# EAGLE library part HEADER-02X004-2_54MM (library FlashPCB_Connectors)
Header 2x4 - Header Vertical 2x4POS 2.54MM Technical Specifications: Pitch: 0.1" (2.54mm) Rows: 2
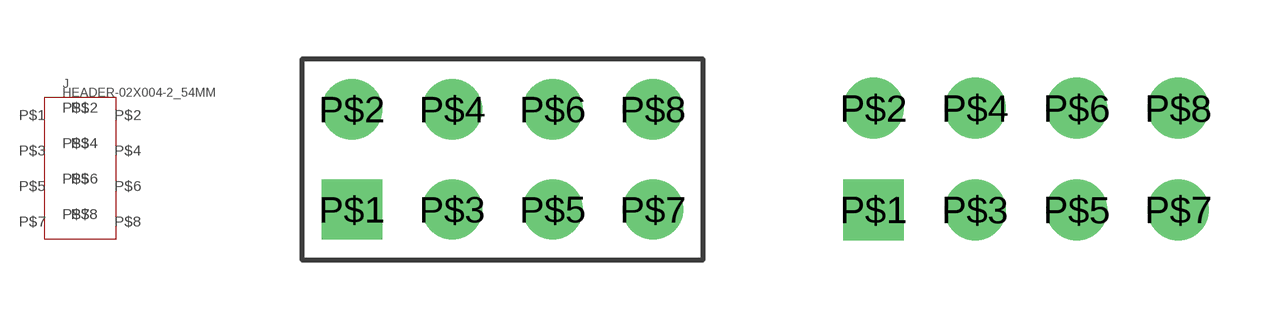
[diagram p7: symbol with the pads of HEADER-THT-02X004-2_54MM; footprints HEADER-THT-02X004-2_54MM, HEADER-THT-NOSILK-02X004-2_54MM]

Designator prefix J

## HEADER-02X004-2_54MMSTANDARD  [HEADER-THT-02X004-2_54MM]
P$1  P$1
P$2  P$2
P$3  P$3
P$4  P$4
P$5  P$5
P$6  P$6
P$7  P$7
P$8  P$8

## HEADER-02X004-2_54MMSTANDARD_NOSILK  [HEADER-THT-NOSILK-02X004-2_54MM]
Pads as for HEADER-THT-02X004-2_54MM

## Footprint HEADER-THT-02X004-2_54MM (pad centres in mm)
drill 1.016 square: P$1 0,0
drill 1.016: P$2 0,2.54; P$3 2.54,0; P$4 2.54,2.54; P$5 5.08,0; P$6 5.08,2.54; P$7 7.62,0; P$8 7.62,2.54

## Footprint HEADER-THT-NOSILK-02X004-2_54MM (pad centres in mm)
drill 1.016 square: P$1 0,0
drill 1.016: P$2 0,2.54; P$3 2.54,0; P$4 2.54,2.54; P$5 5.08,0; P$6 5.08,2.54; P$7 7.62,0; P$8 7.62,2.54